# Altium footprint library Fancy.PcbLib: 140 footprints (part 5 of 9)
Each footprint in its own frame and in the unit in brackets; x right, y up, seen from the top. Pads: shape width x height; smd on the part's side, far side on the other; paste and mask are expansions set on the pad; w line width, h text height; cw(c..) or ccw(c..) is an arc to the next point about the centre after c.
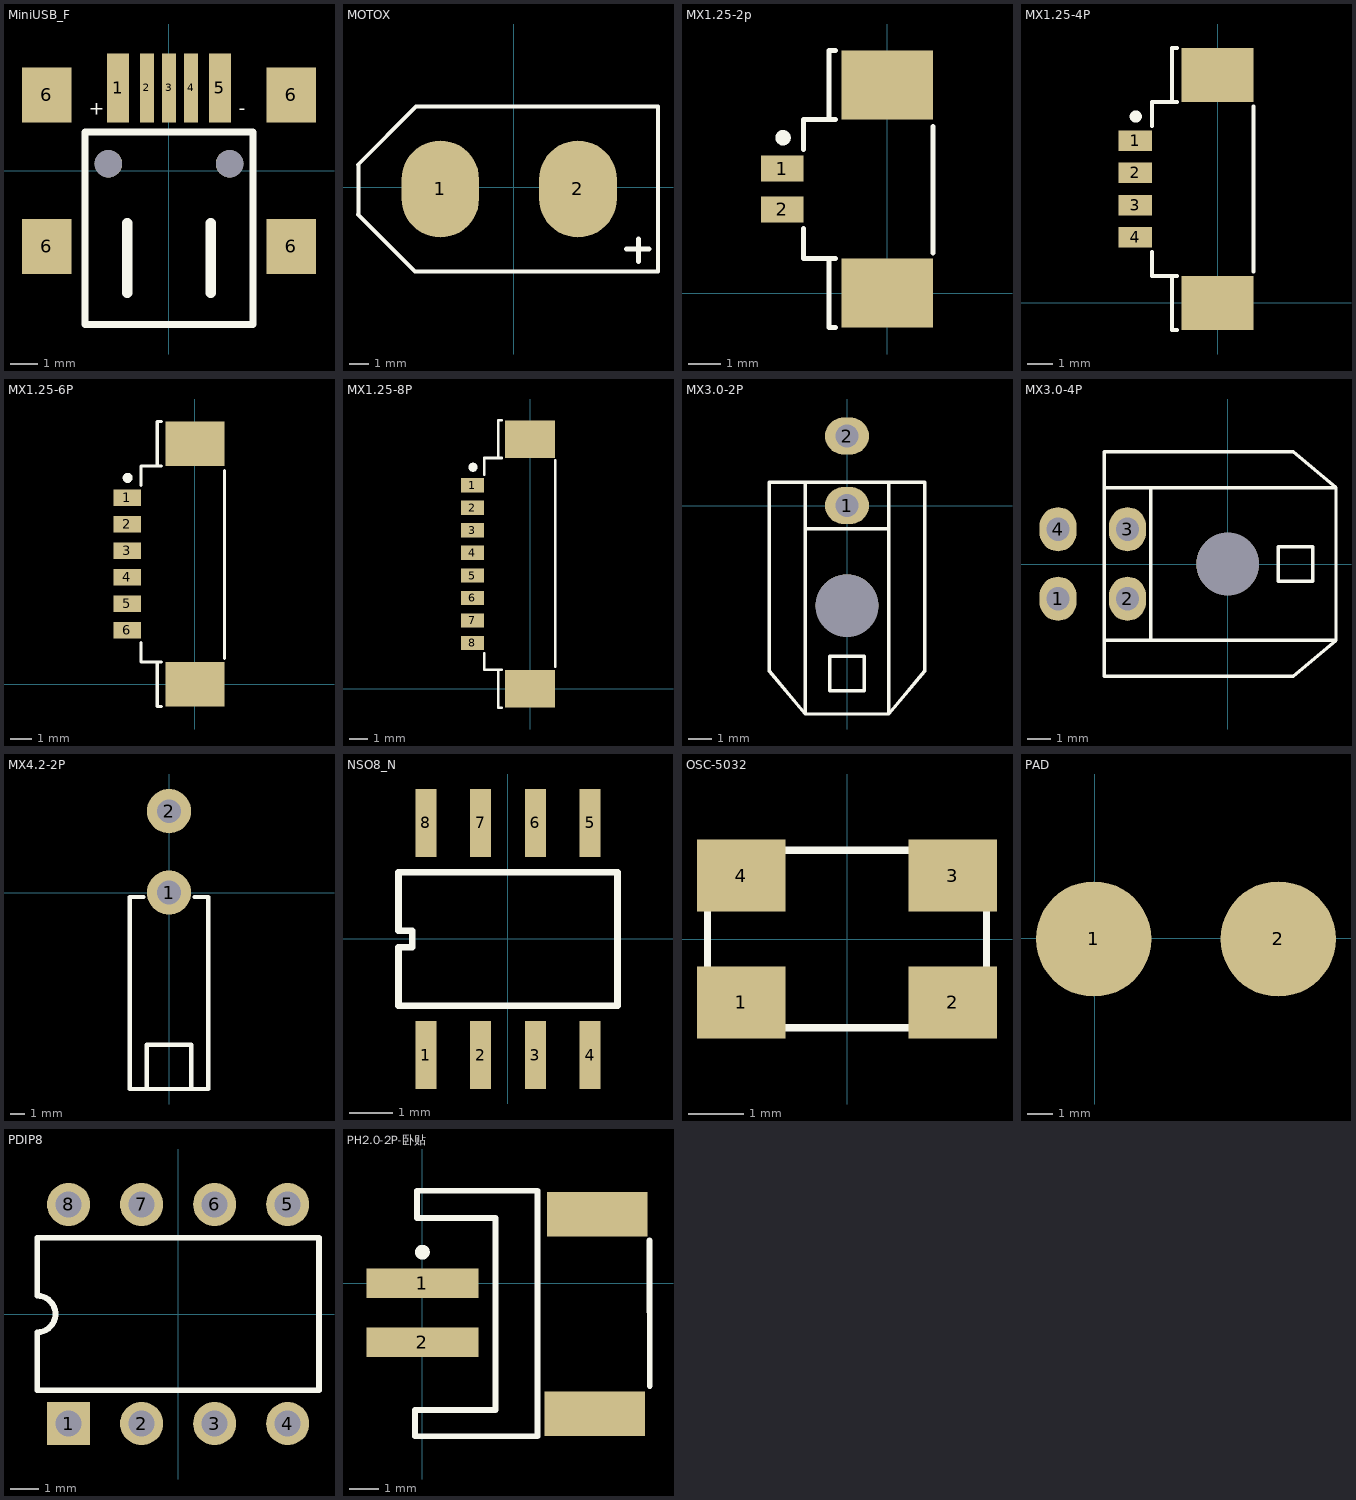
[diagram p4: the footprints below, top view; thin cyan lines are the x and y axes]

## MiniUSB_F [mm]
pads (11):
  rect 0.8x2.5 smd: 1(-1.85,3.004) 5(1.85,3.004)
  rect 0.5x2.5 smd: 2(-0.8,3.004) 3(0,3.004) 4(0.8,3.004)
  rect 1.8x2 smd: 6(-4.45,-2.75) 6(-4.45,2.75) 6(4.45,-2.75) 6(4.45,2.75)
  round 1 hole 1: ""(-2.2,0.25) ""(2.2,0.25)
Top Overlay:
  lines w0.254: -3.048,-5.588 -3.048,1.397 3.048,1.397 3.048,-5.588 -3.048,-5.588
  lines w0.381: -1.524,-4.445 -1.524,-1.905 ; 1.524,-4.445 1.524,-1.905
  text "-" at 2.54,2.032 h0.51
  text "+" at -2.921,2.032 h0.51

## MOTOX [mm]
pads (2):
  oval 4x5 smd paste+0 mask+0.102: 1(-3.8,-0.1) 2(3.3,-0.1)
Top Overlay:
  lines w0.2: -8.042,-1.408 -5.1,-4.35 7.425,-4.35 7.425,4.15 -5.042,4.15 -8.042,1.15 ; -8.017,-1.433 -8.017,1.125
  lines w0.254: 5.8,-3.2 6.975,-3.2 ; 6.425,-3.85 6.425,-2.675

## MX1.25-2p [mil]
pads (4):
  rect 51.18x31.5 smd paste+0 mask+4: 1(-125.98,149.6) 2(-125.98,100.39)
  rect 110.24x82.68 smd paste+0 mask+4: ""(0,0) ""(0,249.99)
Top Overlay:
  circle w10: c-125,186.57 r4.24
  lines w5.91: -100.39,77.75 -100.39,41.46 -62,41.46 ; -100.39,172.24 -100.39,208.6 -62,208.6 ; -69.88,41.46 -69.88,-41.34 -62,-41.34 ; -69.88,208.6 -69.88,291.33 -62,291.33 ; 55,200 55.12,48.23

## MX1.25-4P [mil]
pads (6):
  rect 51.18x31.5 smd paste+0 mask+4: 1(-125.98,248.03) 2(-125.98,198.82) 3(-125.98,149.61) 4(-125.98,100.39)
  rect 110.24x82.68 smd paste+0 mask+4: ""(0,0) ""(0,348.42)
Top Overlay:
  circle w10: c-125,285 r4.24
  lines w5.91: -100.39,77.75 -100.39,41.46 -62,41.46 ; -100.39,270.67 -100.39,307.03 -62,307.03 ; -69.88,41.46 -69.88,-41.34 -62,-41.34 ; -69.88,307.03 -69.88,389.76 -62,389.76 ; 55.12,48.23 55.12,300.19

## MX1.25-6P [mil]
pads (8):
  rect 51.18x31.5 smd paste+0 mask+4: 1(-125.98,346.46) 2(-125.98,297.25) 3(-125.98,248.04) 4(-125.98,198.82) 5(-125.98,149.61) 6(-125.98,100.39)
  rect 110.24x82.68 smd paste+0 mask+4: ""(0,0) ""(0,446.85)
Top Overlay:
  circle w10: c-125,383.43 r4.24
  lines w5.91: -100.39,77.75 -100.39,41.46 -62,41.46 ; -100.39,369.1 -100.39,405.46 -62,405.46 ; -69.88,41.46 -69.88,-41.34 -62,-41.34 ; -69.88,405.46 -69.88,488.19 -62,488.19 ; 55,397 55.12,48.23

## MX1.25-8P [mil]
pads (10):
  rect 51.18x31.5 smd paste+0 mask+4: 1(-126,445.85) 2(-126,396.64) 3(-126,347.43) 4(-126,298.22) 5(-125.98,248.03) 6(-125.98,198.82) 7(-125.98,149.61) 8(-125.98,100.39)
  rect 110.24x82.68 smd paste+0 mask+4: ""(0,0) ""(0,546.42)
Top Overlay:
  circle w10: c-125,485 r5
  lines w5.91: -100.39,77.75 -100.39,41.46 -62,41.46 ; -100.39,468.67 -100.39,505.03 -62,505.03 ; -69.88,41.46 -69.88,-41.34 -62,-41.34 ; -69.88,505.03 -69.88,587.76 -62,587.76 ; 55.12,48.23 55.12,300.19
  lines w6: 55.12,300.19 55.12,499.88

## MX3.0-2P [mm]
pads (3):
  oval 1.9x1.6 hole 1 mask+0.102: 1(0,0) 2(0,3)
  round 2.7 hole 2.7 mask+0.102: ""(0,-4.318)
Top Overlay:
  lines w0.15: -1.8,-1 1.8,-1 ; -1.8,1 -1.8,-9 ; 1.8,1 1.8,-9 ; -1.8,-9 -1.5,-9 1.5,-9 1.8,-9 ; -1.8,-9 -3.35,-7.15 -3.35,1 3.35,1 3.35,-7.15 1.8,-9 ; -0.75,-8 -0.75,-6.5 0.75,-6.5 0.75,-8 -0.75,-8

## MX3.0-4P [mm]
pads (5):
  oval 1.6x1.9 hole 1 mask+0.102: 1(-7.322,-1.5) 2(-4.322,-1.5) 3(-4.322,1.5) 4(-7.322,1.5)
  round 2.7 hole 2.7 mask+0.102: ""(0,0)
Top Overlay:
  lines w0.15: -5.322,-3.35 -5.322,-4.85 2.828,-4.85 4.678,-3.3 ; -5.322,3.3 4.678,3.3 ; -3.322,-3.3 -3.322,3.3 ; 4.678,-3.3 -5.322,-3.3 -5.322,3.35 -5.322,4.85 2.828,4.85 4.678,3.3 ; 4.678,-3.3 4.678,-1.5 4.678,1.5 4.678,3.3 ; 2.178,-0.75 2.178,0.75 3.678,0.75 3.678,-0.75 2.178,-0.75

## MX4.2-2P [mm]
pads (2):
  round 3 hole 1.6 mask+0.102: 1(0,0) 2(0,5.512)
Top Overlay:
  lines w0.3: -1.725,-0.3 -2.66,-0.3 -2.66,-13.3 0,-13.3 2.66,-13.3 2.66,-0.3 1.725,-0.3 ; -1.5,-13.3 -1.5,-10.3 0,-10.3 1.5,-10.3 1.5,-13.3

## NSO8_N [mil]
pads (8):
  rect 19x62 smd: 1(-75,-106) 2(-25,-106) 3(25,-106) 4(75,-106) 5(75,106) 6(25,106) 7(-25,106) 8(-75,106)
Top Overlay:
  lines w6: -100,-61 -100,-7.62 -87.5,-7.62 -87.5,7.62 -100,7.62 -100,61 100,61 100,-61 -100,-61

## OSC-5032 [mm]
pads (4):
  rect 1.6x1.3 smd: 1(-1.905,-1.143) 2(1.905,-1.143) 3(1.905,1.143) 4(-1.905,1.143)
Top Overlay:
  lines w0.127: -2.515,-1.6 0,-1.6 2.515,-1.6 2.515,0 2.515,1.6 0,1.6 -2.515,1.6 -2.515,0 -2.515,-1.6

## PAD [mm]
pads (2):
  round 4.5 smd: 1(-0.05,-0.025) 2(7.15,-0.025)

## PCBComponent_1 [mm]

## PCBComponent_1 - duplicate [mm]

## PDIP8 [mm] "DIP; 8 Leads; Row Spacing 7.62 mm; Pitch 2.54 mm"
height 5.08
pads (8):
  rect 1.5x1.5 hole 0.9: 1(-3.81,-3.81)
  round 1.5 hole 0.9: 2(-1.27,-3.81) 3(1.27,-3.81) 4(3.81,-3.81) 5(3.81,3.81) 6(1.27,3.81) 7(-1.27,3.81) 8(-3.81,3.81)
Top Overlay:
  lines w0.2: -4.9,-2.65 -4.9,-0.635 ccw(c-4.9,0) -4.9,0.635 -4.9,2.65 4.9,2.65 4.9,-2.65 -4.9,-2.65

## PH2.0-2P-卧贴 [mm]
pads (4):
  rect 3.8x1 smd: 1(0,0) 2(0,-2)
  rect 3.4x1.5 smd: ""(5.841,-4.422) ""(5.917,2.334)
Top Overlay:
  circle w0.25: c0,1.05 r0.125
  lines w0.2: 2.524,-5.184 3.9,-5.184 3.9,3.127 2.642,3.127 ; 2.539,-5.184 -0.255,-5.184 -0.255,-4.295 2.473,-4.295 2.473,2.207 -0.179,2.207 -0.179,3.127 2.6,3.127 ; 7.695,1.445 7.696,-3.48